# Altium schematic symbol library JTAG Breakout.Schlib: 1 symbol
Pins are listed as number, name and electrical type; pins without a type are passive.

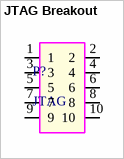
[diagram p0: symbol JTAG Breakout]

## JTAG Breakout
designator P?, comment JTAG
pins: 1, 2, 3, 4, 5, 6, 7, 8, 9, 10